# EAGLE library part LF351N (library ST Microelectronics)
Wide bandwidth single JFET operational amplifiers
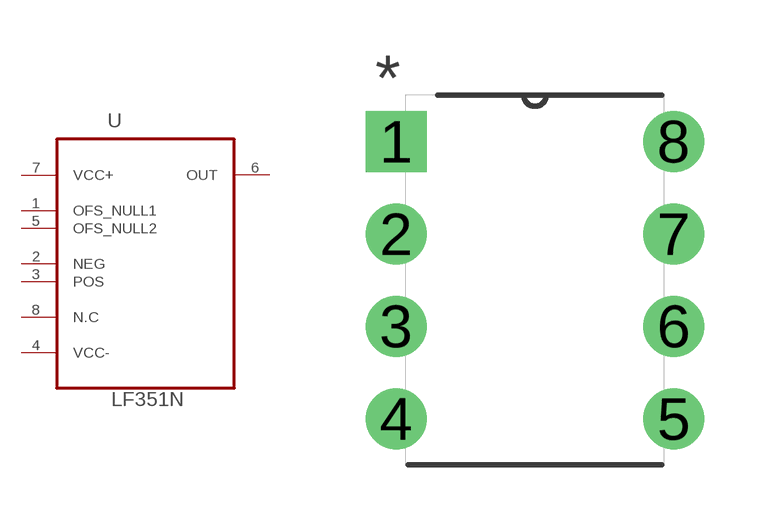
[diagram p68: symbol with the pads of DIP254P762X533-8; footprint DIP254P762X533-8]

Designator prefix U

## LF351N (MPN: LF351N; OC_FARNELL: 1366577; OC_NEWARK: 56P7940; PACKAGE: PDIP-8; SUPPLIER: STMICROELECTRONICS)  [DIP254P762X533-8]
1  OFS_NULL1  pas
2  NEG  in
3  POS  in
4  VCC-  pwr
5  OFS_NULL2  pas
6  OUT  out
7  VCC+  pwr
8  N.C  nc

## Footprint DIP254P762X533-8 (pad centres in mm)
drill 1.118 square: 1 -7.62,7.62
drill 1.118: 2 -7.62,5.08; 3 -7.62,2.54; 4 -7.62,0; 5 0,0; 6 0,2.54; 7 0,5.08; 8 0,7.62